# Altium integrated library Cypress Peripheral Timing Frequency Generator.IntLib: 1 symbol
Pins are listed as number, name and electrical type; pins without a type are passive.

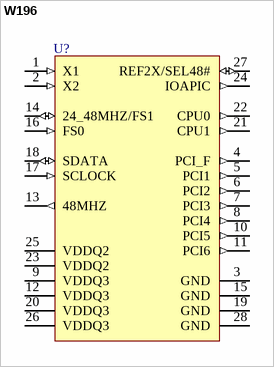
[diagram p0: symbol W196]

## W196
designator U?
Spread Spectrum FTG for 440BX and VIA Apollo Pro-133; Published: 11-Dec-2002; LatestRevisionDate: 13-Apr-2006; LatestRevisionNote: IPC-7351 Footprint Added.; DatasheetVersion: 28-Oct-1999; PackageVersion: Oct-1999; PackageReference: G; Publisher: Altium Limited; PackageDescription: 28-Pin Plastic Small Outline Integrated Circuit 1.27 mm Pitch; ComponentLink1Description: Manufacturer Link; ComponentLink1URL: http://www.cypress.com/; ComponentLink2Description: Datasheet; ComponentLink2URL: http://www.cypress.com/portal/server.pt/gateway/PTARGS_0_2_1524_209_259_43/http%3B/sjapp20.mis.cypress.com%3B7001/publishedcontent/publish/design_resources/datasheets/contents/w196_5.pdf
footprint G_N (SOIC, 28-Leads, Body 17.9x7.5mm, Pitch 1.27mm, IPC Medium Density)
footprint G_L (SOIC, 28-Leads, Body 17.9x7.5mm, Pitch 1.27mm, IPC High Density)
footprint G_M (SOIC, 28-Leads, Body 17.9x7.5mm, Pitch 1.27mm, IPC Low Density)
3D model G (28-Pin Plastic Small Outline Integrated Circuit 1.27 mm Pitch)
pins: 1 X1 (in), 2 X2 (in), 3 GND (power), 4 PCI_F (out), 5 PCI1 (out), 6 PCI2 (out), 7 PCI3 (out), 8 PCI4 (out), 9 VDDQ3 (power), 10 PCI5 (out), 11 PCI6 (out), 12 VDDQ3 (power), 13 48MHZ (out), 14 24_48MHZ/FS1 (io), 15 GND (power), 16 FS0 (in), 17 SCLOCK (in), 18 SDATA (io), 19 GND (power), 20 VDDQ3 (power), 21 CPU1 (out), 22 CPU0 (out), 23 VDDQ2 (power), 24 IOAPIC (out), 25 VDDQ2 (power), 26 VDDQ3 (power), 27 REF2X/SEL48# (io), 28 GND (power)